# Altium schematic symbol library LegBoard.SchLib: 11 symbols
Pins are listed as number, name and electrical type; pins without a type are passive.

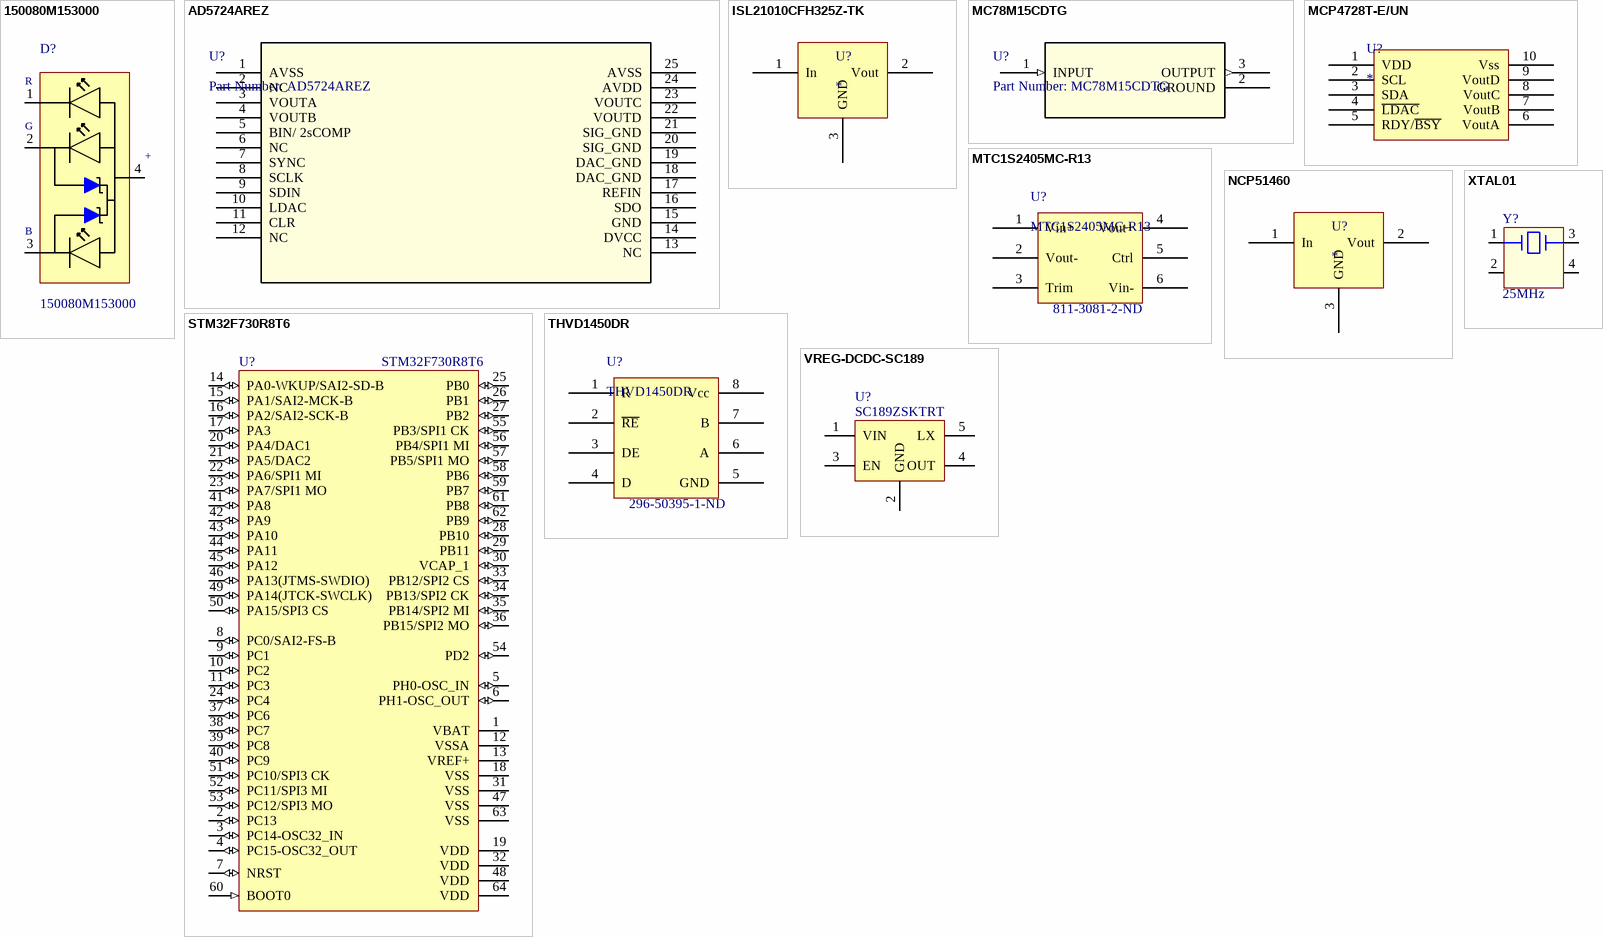
[diagram p0: symbols 150080M153000 to XTAL01]

## 150080M153000
designator D?
Red, Green, Blue _RGB_ 624nm Red, 525nm Green, 470nm Blue LED Indication - Discrete 2V Red, 3.3V Green, 3.3V Blue 4-SMD, No Lead; MF: Wurth Electronics; SnapEDA_Link: https://www.snapeda.com/parts/150080M153000/Wurth%20Electronics%20Inc./view-part/2747771/?ref=snap; Availability: Unavailable; Price: None; MP: 150080M153000; Package: SMD-4 WÃ¼rth Elektronik; Value: *
footprint *LED_150080M153000
pins: 1 R, 2 G, 3 B, 4 A
text: +

## AD5724AREZ
designator U?, comment Part Number: AD5724AREZ
No Description Available; Vendor: Analog Devices Inc; Built_By: EMA_UL_Team; Manufacturer_Part_Number: AD5724AREZ; Copyright: Copyright (C) 2018 Accelerated Designs. All rights reserved; RefDes: RefDes; Type: DEV; Value: Value
footprint RE_24
pins: 1 AVSS, 2 NC, 3 VOUTA, 4 VOUTB, 5 BIN/ 2sCOMP, 6 NC, 7 SYNC, 8 SCLK, 9 SDIN, 10 LDAC, 11 CLR, 12 NC, 13 NC, 14 DVCC (power), 15 GND, 16 SDO, 17 REFIN, 18 DAC_GND, 19 DAC_GND, 20 SIG_GND, 21 SIG_GND, 22 VOUTD, 23 VOUTC, 24 AVDD (power), 25 AVSS (power)

## ISL21010CFH325Z-TK
designator U?
ISL21010CFH325Z-TK; Vendor PN: ISL21010CFH325Z-TKTR-ND
footprint SOT95P237X111-3N (Small Outline Transistor (SOT23), 0.95 mm pitch; 3 pin, 2.90 mm L X 1.30 mm W X 1.11 mm H body)
pins: 1 In, 2 Vout, 3 GND

## MC78M15CDTG
designator U?, comment Part Number: MC78M15CDTG
No Description Available; Vendor: ON Semiconductor; Manufacturer_Part_Number: MC78M15CDTG; Copyright: Copyright (C) 2016 Accelerated Designs. All rights reserved; RefDes: RefDes; Type: DEV; Value: Value
footprint DPAK-3
pins: 1 INPUT (in), 2 GROUND (power), 3 OUTPUT (out)

## MCP4728T-E/UN
designator U?
Vendor PN: MCP4728T-E/UNCT-ND
footprint *SOP50P490X110-10N
pins: 1 VDD, 2 SCL, 3 SDA, 4 ~{LDAC}, 5 RDY/~{BSY}, 6 VoutA, 7 VoutB, 8 VoutC, 9 VoutD, 10 Vss

## MTC1S2405MC-R13
designator U?  Vendor PN: 811-3081-2-ND
footprint MTC1S2405MC-R13
pins: 1 Vin+, 2 Vout-, 3 Trim, 4 Vout+, 5 Ctrl, 6 Vin-

## NCP51460
designator U?
Vendor PN: NCP51460SN33T1GOSCT-ND
footprint SOT95P237X111-3N (Small Outline Transistor (SOT23), 0.95 mm pitch; 3 pin, 2.90 mm L X 1.30 mm W X 1.11 mm H body)
pins: 1 In, 2 Vout, 3 GND

## STM32F730R8T6
designator U?
IC, Cortex-M7 32b MCU+FPU, 462DMIPS, 64KB Flash / /256+16+4KB RAM, 64 pin LQFP; Manufacturer 1: STMicro; Manufacturer Part Number 1: STM32F730R8T6; Category: ICs
footprint STM-LQFP64_L (Thin QFP, 64-Leads, Body 10x10mm, Pitch 0.5mm, IPC High Density)
footprint STM-LQFP64_V (Thin QFP, 64-Leads, Body 10x10mm, Pitch 0.5mm, ST Recommended)
pins: 1 VBAT (power) "Backup power supply", 2 PC13 (io) "PC13/RTC_TAMP1,RTC_TS,RTC_OUT,WKUP2", 3 PC14-OSC32_IN (io) "PC14-OSC32_IN(PC14)/OSC32_IN", 4 PC15-OSC32_OUT (io) "PC15-OSC32_OUT(PC15)/OSC32_OUT", 5 PH0-OSC_IN (io) "PF0-OSC_IN(PF0)/OSC_IN", 6 PH1-OSC_OUT (io) "PF1-OSC_OUT(PF1)/OSC_OUT", 7 NRST (io) "Device reset input / internal reset output (active low)", 8 PC0/SAI2-FS-B (io) "PB15/SPI2_MOSI,TIM1_CH3N,TIM15_CH1N,TIM15_CH2/RTC_REFIN", 9 PC1 (io) "PC1/EVENTOUT/ADC_IN11", 10 PC2 (io) "PC2/EVENTOUT/ADC_IN12", 11 PC3 (io) "PC3/EVENTOUT/ADC_IN13", 12 VSSA (power) "Analog ground", 13 VREF+ (power) "Analog power supply", 14 PA0-WKUP/SAI2-SD-B (io) "PA0/USART2_CTS,TIM2_CH1_ETR,COMP1_OUT,TSC_G1_IO1/ADC_IN0,COMP1_INM6,RTC_TAMP2,WKUP1", 15 PA1/SAI2-MCK-B (io) "PA1/USART2_RTS,TIM2_CH2,TSC_G1_IO2,EVENTOUT/ADC_IN1,COMP1_INP", 16 PA2/SAI2-SCK-B (io) "PA2/USART2_TX,TIM2_CH3,TIM15_CH1,COMP2_OUT,TSC_G1_IO3/ADC_IN2,COMP2_INM6", 17 PA3 (io) "PA3/USART2_RX,TIM2_CH4,TIM15_CH2,TSC_G1_IO4/ADC_IN3,COMP2_INP", 18 VSS (power) "PF4/EVENTOUT", 19 VDD (power) "PF5/EVENTOUT", 20 PA4/DAC1 (io) "PA4/SPI1_NSS/I2S1_WS,USART2_CK,TIM14_CH1,TSC_G2_IO1/ADC_IN4,COMP1_INM4,COMP2_INM4,DAC1_OUT", 21 PA5/DAC2 (io) "PA5/SPI1_SCK/I2S1_CK,CEC,TIM2_CH1_ETR,TSC_G2_IO2/ADC_IN5,COMP1_INM5,COMP2_INM5", 22 PA6/SPI1 MI (io) "PA6/SPI1_MISO/I2S1_MCK,TIM3_CH1,TIM1_BKIN,TIM16_CH1,COMP1_OUT,TSC_G2_IO3,EVENTOUT/ADC_IN6", 23 PA7/SPI1 MO (io) "PA7/SPI1_MOSI/I2S1_SD,TIM3_CH2,TIM14_CH1,TIM1_CH1N,TIM17_CH1,COMP2_OUT,TSC_G2_IO4,EVENTOUT/ADC_IN7", 24 PC4 (io) "PC4/EVENTOUT/ADC_IN14", 25 PB0 (io) "PC5/TSC_G3_IO1/ADC_IN15", 26 PB1 (io) "PB0/TIM3_CH3,TIM1_CH2N,TSC_G3_IO2,EVENTOUT/ADC_IN8", 27 PB2 (io) "PB1/TIM3_CH4,TIM14_CH1,TIM1_CH3N,TSC_G3_IO3/ADC_IN9", 28 PB10 (io) "PB2/TSC_G3_IO4", 29 PB11 (io) "PB10/I2C2_SCL,CEC,TIM2_CH3,TSC_SYNC", 30 VCAP_1 (io) "PB11/I2C2_SDA,TIM2_CH4,TSC_G6_IO1,EVENTOUT", 31 VSS (power) "Ground", 32 VDD (power) "Digital power supply", 33 PB12/SPI2 CS (io) "PB8/I2C1_SCL,CEC,TIM16_CH1,TSC_SYNC", 34 PB13/SPI2 CK (io) "PB12/SPI2_NSS,TIM1_BKIN,TSC_G6_IO2,EVENTOUT", 35 PB14/SPI2 MI (io) "PB13/SPI2_SCK,TIM1_CH1N,TSC_G6_IO3", 36 PB15/SPI2 MO (io) "PB14/SPI2_MISO,TIM1_CH2N,TIM15_CH1,TSC_G6_IO4", 37 PC6 (io) "PC6/TIM3_CH1", 38 PC7 (io) "PC7/TIM3_CH2", 39 PC8 (io) "PC8/TIM3_CH3", 40 PC9 (io) "PC9/TIM3_CH4", 41 PA8 (io) "PA8/USART1_CK,TIM1_CH1,EVENTOUT,MCO", 42 PA9 (io) "PA9/USART1_TX,TIM1_CH2,TIM15_BKIN,TSC_G4_IO1", 43 PA10 (io) "PA10/USART1_RX,TIM1_CH3,TIM17_BKIN,TSC_G4_IO2", 44 PA11 (io) "PA11/USART1_CTS,TIM1_CH4,COMP1_OUT,TSC_G4_IO3,EVENTOUT", 45 PA12 (io) "PA12/USART1_RTS,TIM1_ETR,COMP2_OUT,TSC_G4_IO4,EVENTOUT", 46 PA13(JTMS-SWDIO) (io) "PA13(SWDAT)/IR_OUT,SWDAT", 47 VSS (power) "PF6/I2C2_SCL", 48 VDD (power) "PF7/I2C2_SDA", 49 PA14(JTCK-SWCLK) (io) "PA14(SWCLK)/USART2_TX,SWCLK", 50 PA15/SPI3 CS (io) "PA15/SPI1_NSS/I2S1_WS,USART2_RX,TIM2_CH1_ETR,EVENTOUT", 51 PC10/SPI3 CK (io) "PC10", 52 PC11/SPI3 MI (io) "PC11", 53 PC12/SPI3 MO (io) "PC12", 54 PD2 (io) "PD2/TIM3_ETR", 55 PB3/SPI1 CK (io) "PB3/SPI1_SCK/I2S1_CK,TIM2_CH2,TSC_G5_IO1,EVENTOUT", 56 PB4/SPI1 MI (io) "PB4/SPI1_MISO/I2S1_MCK,TIM3_CH1,TSC_G5_IO2,EVENTOUT", 57 PB5/SPI1 MO (io) "PB5/SPI1_MOSI,I2S1_SD,I2C1_SMBA,TIM16_BKIN,TIM3_CH2", 58 PB6 (io) "PB6/I2C1_SCL,USART1_TX,TIM16_CH1N,TSC_G5_IO3", 59 PB7 (io) "PB7/I2C1_SDA,USART1_RX,TIM17_CH1N,TSC_G5_IO4", 60 BOOT0 (in) "Boot memory selection", 61 PB8 (io) "PB8/I2C1_SCL,CEC,TIM16_CH1,TSC_SYNC", 62 PB9 (io) "PB9/I2C1_SDA,IR_OUT,TIM17_CH1,EVENTOUT", 63 VSS (power) "Ground", 64 VDD (power) "Digital power supply"

## THVD1450DR
designator U?  Vendor PN: 296-50395-1-ND
footprint SOIC8
pins: 1 R, 2 ~{RE}, 3 DE, 4 D, 5 GND, 6 A, 7 B, 8 Vcc

## VREG-DCDC-SC189
designator U?, comment SC189ZSKTRT
IC, Buck Converter, SC189ZSKTRT; Manufacturer 1: Semtech; Manufacturer Part Number 1: SC189ZSKTRT; Category: ICs
footprint SOT23-5 (SOT23 5 Pin package)
pins: 1 VIN, 2 GND, 3 EN, 4 OUT, 5 LX

## XTAL01
designator Y?, comment 25MHz
Crystal, Murata  XRCGB25M000F3M00R0; Value: 25MHz; Manufacturer 1: Murata; Manufacturer Part Number 1: XRCGB25M000F3M00R0; Category: frequency control
footprint XTAL2x1.6-XRCGB (XTAL 2mm X 1.6mm, Murata XRCGB)
pins: 1 X1, 2 GND, 3 X3, 4 GND